# EAGLE library part 74LVC1G157 (library 74XXX-little-logic)
SINGLE 2-INPUT MULTIPLEXER
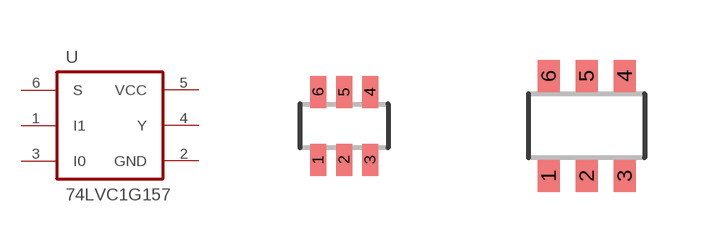
[diagram p7: symbol with the pads of SOT363; footprints SOT363, SOT457]

Designator prefix U

## 74LVC1G157GW (P1I: o)  [SOT363]
1  I1  in
2  GND  pwr
3  I0  in
4  Y  out
5  VCC  pwr
6  S  in

## 74LVC1G157GV (DIGIKEY: 568-3007-1-ND; P1I: o)  [SOT457]
Pads as for SOT363

## 74LVC1G157GM (P1I: o)  [SOT886]
Pads as for SOT363

## Footprint SOT363 (pad centres in mm)
Small Outline Transistor; 6 leads
smd 0.4 x 0.8: 1 -0.65,-0.85; 2 0,-0.85; 3 0.65,-0.85; 4 0.65,0.85; 5 0,0.85; 6 -0.65,0.85

## Footprint SOT457 (pad centres in mm)
Small Outline Transistor; 6 leads TSSOP-6, SOT457 (SC-74)
smd 0.55 x 0.8: 1 -0.95,-1.25; 2 0,-1.25; 3 0.95,-1.25; 4 0.95,1.25; 5 0,1.25; 6 -0.95,1.25

## Footprint SOT886 (pad centres in mm)
SOT886 (XSON6) plastic extremely thin small outline package no leads; 6 terminals; body 1 x 1.45 x 0.5 mm
smd 0.25 x 0.4: 1 -0.5,-0.3
smd 0.25 x 0.35: 2 0,-0.3; 3 0.5,-0.3; 4 0.5,0.3; 5 0,0.3; 6 -0.5,0.3